# Altium footprint library Crystal Oscillator.PcbLib: 2 footprints
Each footprint in its own frame and in the unit in brackets; x right, y up, seen from the top. Pads: shape width x height; smd on the part's side, far side on the other; paste and mask are expansions set on the pad; w line width, h text height; cw(c..) or ccw(c..) is an arc to the next point about the centre after c.
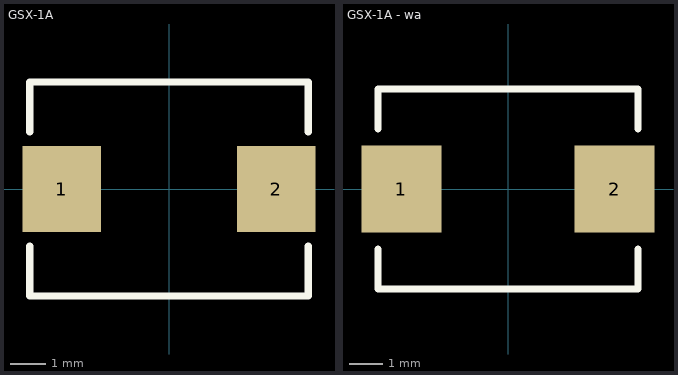
[diagram p0: the footprints below, top view; thin cyan lines are the x and y axes]

## GSX-1A [mm] "Кварцевый резонатор"
height 1.7
pads (2):
  rect 2.2x2.4 smd: 1(-3,0) 2(3,0)
Top Overlay:
  lines w0.2: -3.9,-3 -3.9,-1.6 ; -3.9,1.6 -3.9,3 ; -3.875,-3 3.875,-3 ; -3.875,3 3.875,3 ; 3.9,-3 3.9,-1.6 ; 3.9,1.6 3.9,3

## GSX-1A - wa [mm] "Кварцевый резонатор"
height 1.7
pads (2):
  rect 2.4x2.6 smd: 1(-3.2,0) 2(3.2,0)
Top Overlay:
  lines w0.2: -3.9,-3 -3.9,-1.8 ; -3.9,1.8 -3.9,3 ; -3.875,-3 3.875,-3 ; -3.875,3 3.875,3 ; 3.9,-3 3.9,-1.8 ; 3.9,1.8 3.9,3